# Altium footprint library Button-Sensor.PcbLib: 4 footprints
Each footprint in its own frame and in the unit in brackets; x right, y up, seen from the top. Pads: shape width x height; smd on the part's side, far side on the other; paste and mask are expansions set on the pad; w line width, h text height; cw(c..) or ccw(c..) is an arc to the next point about the centre after c.
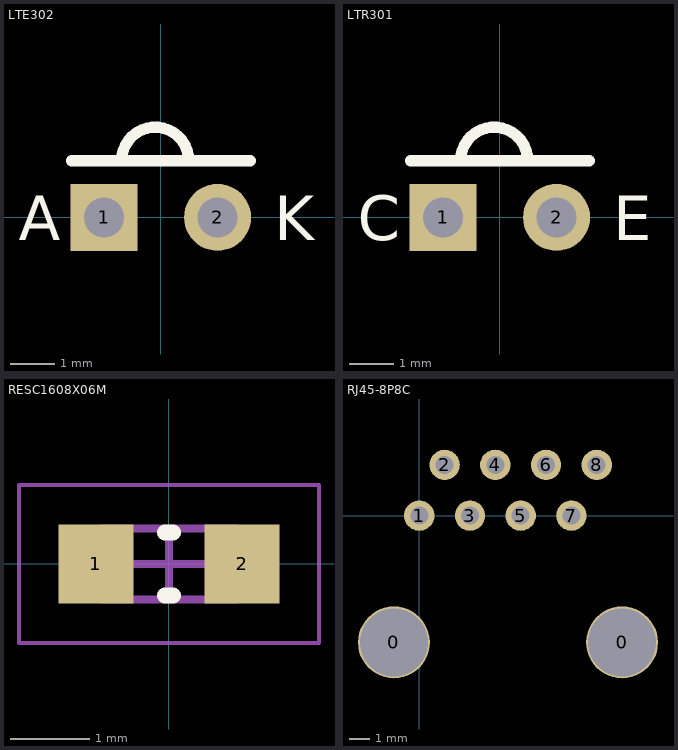
[diagram p0: the footprints below, top view; thin cyan lines are the x and y axes]

## LTE302 [mm]
pads (2):
  rect 1.5x1.5 hole 0.9: 1(-1.27,0)
  round 1.5 hole 0.9: 2(1.27,0)
Top Overlay:
  lines w0.254: -2,1.27 2,1.27 ; -0.877,1.27 cw(c-0.127,1.27) 0.623,1.27
  text "A" at -3.175,-0.508 h1
  text "K" at 2.54,-0.508 h1

## LTR301 [mm]
pads (2):
  rect 1.5x1.5 hole 0.9: 1(-1.27,0)
  round 1.5 hole 0.9: 2(1.27,0)
Top Overlay:
  lines w0.254: -2,1.27 2,1.27 ; -0.877,1.27 cw(c-0.127,1.27) 0.623,1.27
  text "E" at 2.54,-0.508 h1
  text "C" at -3.175,-0.508 h1

## RESC1608X06M [mm] "Chip Resistor, 2-Leads, Body 1,60x0,80mm, IPC Low Density"
height 0.6
pads (2):
  rect 0.95x1 smd: 1(-0.925,0) 2(0.925,0)
Top Overlay:
  lines w0.2: -0.05,-0.4 0.05,-0.4 ; -0.05,0.4 0.05,0.4
Mechanical 13:
  lines w0.1: -0.85,-0.45 0.85,-0.45 0.85,0.45 -0.85,0.45 -0.85,-0.45
Mechanical 15:
  lines w0.05: -1.9,-1 1.9,-1 1.9,1 -1.9,1 -1.9,-1
  lines w0.1: -0.45,0 0.45,0 ; 0,-0.45 0,0.45
3D body: height 0.6, standoff 0, extent 0.65,-0.45 0.85,0.45
3D body: height 0.6, standoff 0, extent -0.85,-0.45 -0.65,0.45
3D body: height 0.6, standoff 0, extent -0.65,-0.45 0.65,0.45

## RJ45-8P8C [mil]
pads (10):
  round 141.73 hole 133.86: 0(-50,-250) 0(400,-250)
  round 60 hole 35.43: 1(0,0) 2(50,100) 3(100,0) 4(150,100) 5(200,0) 6(250,100) 7(300,0) 8(350,100)
3D body "rj45_144-L.STEP": height 637.68, standoff -150.35, extent -135.7,-665.47 484.37,145.47